# Altium footprint library MS-USMF.PcbLib: 1 footprints
Each footprint in its own frame and in the unit in brackets; x right, y up, seen from the top. Pads: shape width x height; smd on the part's side, far side on the other; paste and mask are expansions set on the pad; w line width, h text height; cw(c..) or ccw(c..) is an arc to the next point about the centre after c.
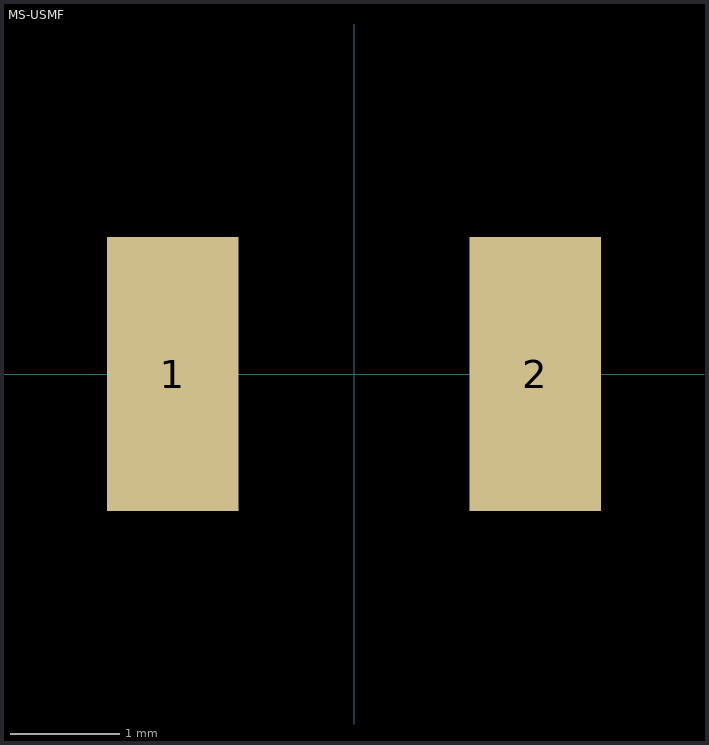
[diagram p0: the footprint, top view; thin cyan lines are the x and y axes]

## MS-USMF [mm]
pads (2):
  rect 1.2x2.5 smd: 1(-1.651,0) 2(1.651,0)
3D body "MF-USMF.step": height 1.1, standoff 0, extent -1.715,-1.4 1.715,1.4